# Altium footprint library LuxLogger_V2_pcb.PcbLib: 28 footprints (part 1 of 2)
Each footprint in its own frame and in the unit in brackets; x right, y up, seen from the top. Pads: shape width x height; smd on the part's side, far side on the other; paste and mask are expansions set on the pad; w line width, h text height; cw(c..) or ccw(c..) is an arc to the next point about the centre after c.
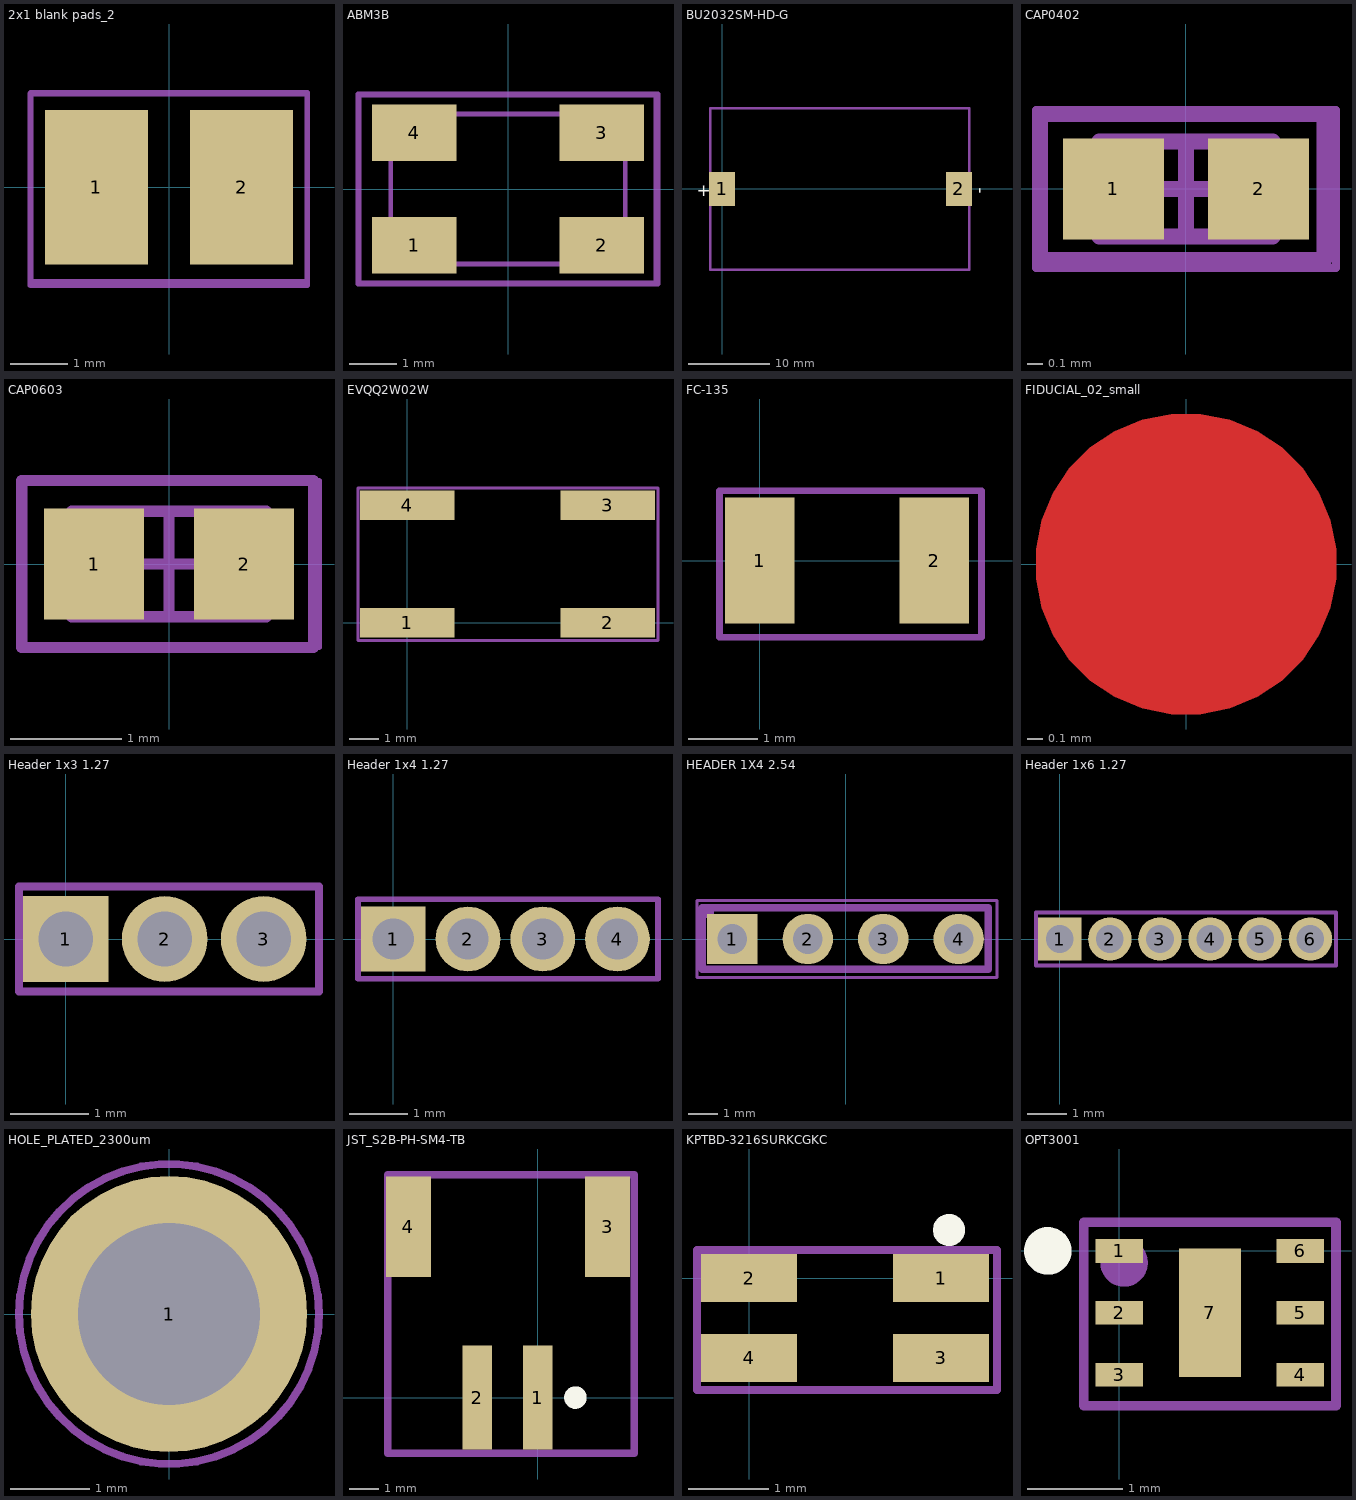
[diagram p0: the footprints below, top view; thin cyan lines are the x and y axes]

## 2x1 blank pads_2 [mm]
pads (2):
  rect 1.8x2.7 smd: 1(-1.27,0) 2(1.27,0)
Mechanical 13:
  lines w0.1: -2.413,-1.651 2.413,-1.651 2.413,1.651 -2.413,1.651 -2.413,-1.651
Mechanical 15:
  lines w0.05: -2.413,-1.651 2.413,-1.651 2.413,1.651 -2.413,1.651 -2.413,-1.651
Mechanical 29:
  lines w0.1: -2.418,-1.711 -2.418,1.638 2.414,1.638 2.414,-1.711 -2.418,-1.711
  text "'.Designator'" at -1.436,-0.661 h1

## ABM3B [mm]
pads (4):
  rect 1.8x1.2 smd: 1(-2,-1.2) 2(2,-1.2) 3(2,1.2) 4(-2,1.2)
Mechanical 13:
  circle w0.2: c-1.981,-0.94 r0.1
  lines w0.1: -2.5,-1.6 -2.5,1.6 2.5,1.6 2.5,-1.6 -2.5,-1.6
Mechanical 15:
  lines w0.1: -3.2,-2.032 -3.2,2.032 3.2,2.032 3.2,-2.032 -3.2,-2.032
Mechanical 29:
  lines w0.1: -3.175,-2 3.15,-2 3.15,2 -3.175,2 -3.175,-2
  text "'.Designator'" at -1.925,-0.525 h1
3D body: height 1.1, standoff 0, extent -2.5,-1.6 2.5,1.6

## BU2032SM-HD-G [mm]
pads (2):
  rect 3.2x4.2 smd: 1(0,0) 2(29.3,0)
Top Overlay:
  text "-" at 32.5,-0.6 h1.52
  text "+" at -3.1,-0.9 h1.52
Mechanical 29:
  lines w0.3: -1.475,-10 -1.475,9.95 30.6,9.95 30.6,-10 -1.475,-10
  text "'.Designator'" at 16.111,0.545 h1.5
3D body "MPD_BU2032SM-HD-G.STEP": height 5.3, standoff 0, extent -1.4,-10.05 30.6,9.95

## CAP0402 [mm]
pads (2):
  rect 0.64x0.64 smd: 1(-0.46,0) 2(0.46,0)
Mechanical 2:
Mechanical 13:
  lines w0.1: -0.55,-0.3 0.55,-0.3 0.55,0.3 -0.55,0.3 -0.55,-0.3
Mechanical 15:
  lines w0.05: -0.95,-0.5 0.95,-0.5 0.95,0.5 -0.95,0.5 -0.95,-0.5
  lines w0.1: -0.3,0 0.3,0 ; 0,-0.3 0,0.3
Mechanical 29:
  lines w0.1: -0.925,-0.45 0.875,-0.45 0.875,0.475 -0.925,0.475 -0.925,-0.45
  text "'.Designator'" at -0.667,-0.235 h0.5
3D body: height 0.6, standoff 0, extent -0.35,-0.3 0.35,0.3
3D body: height 0.6, standoff 0, extent 0.35,-0.3 0.55,0.3
3D body: height 0.6, standoff 0, extent -0.55,-0.3 -0.35,0.3

## CAP0603 [mm]
pads (2):
  rect 0.9x1 smd: 1(-0.675,0) 2(0.675,0)
Mechanical 2:
Mechanical 13:
  lines w0.1: -0.875,-0.475 0.875,-0.475 0.875,0.475 -0.875,0.475 -0.875,-0.475
Mechanical 15:
  lines w0.05: -1.35,-0.75 1.35,-0.75 1.35,0.75 -1.35,0.75 -1.35,-0.75
  lines w0.1: -0.475,0 0.475,0 ; 0,-0.475 0,0.475
Mechanical 29:
  lines w0.1: -1.325,-0.75 -1.325,0.75 1.3,0.75 1.3,-0.75 -1.325,-0.75
  text "'.Designator'" at 0.1,0 h0.5
3D body: height 0.85, standoff 0, extent -0.525,-0.475 0.525,0.475
3D body: height 0.85, standoff 0, extent 0.525,-0.475 0.875,0.475
3D body: height 0.85, standoff 0, extent -0.875,-0.475 -0.525,0.475

## EVQQ2W02W [mm]
pads (4):
  rect 3.2x1 smd: 1(0,0) 2(6.8,0) 3(6.8,4) 4(0,4)
Mechanical 29:
  lines w0.1: -1.675,-0.6 8.5,-0.6 8.5,4.575 -1.675,4.575 -1.675,-0.6
  text "'.Designator'" at 3.7,2.5 h1
3D body: height 1.8, standoff 0, extent 0,-1 6.5,5
3D body: height 2.5, standoff 0, extent 1.762,0.503 4.75,3.497

## FC-135 [mm]
pads (2):
  rect 1x1.8 smd: 1(0,0) 2(2.5,0)
Mechanical 29:
  lines w0.1: -0.575,-1.1 3.175,-1.1 3.175,1 -0.575,1 -0.575,-1.1
  text "'.Designator'" at 0,-0.675 h1
3D body: height 0.8, standoff 0, extent -0.35,-0.75 2.85,0.75

## FIDUCIAL_02_small [mm]
Top Layer:
  pour cut-out: 0,-1 -0.098,-1 -0.292,-0.962 -0.474,-0.886 -0.637,-0.777 -0.777,-0.637 -0.886,-0.474 -0.962,-0.292 -1,-0.098 -1,0 -1,0.098 -0.962,0.292 -0.886,0.474 -0.777,0.637 -0.637,0.777 -0.474,0.886 -0.292,0.962 -0.098,1 0,1 0.098,1 0.292,0.962 0.474,0.886 0.637,0.777 0.777,0.637 0.886,0.474 0.962,0.292 1,0.098 1,0 1,-0.098 0.962,-0.292 0.886,-0.474 0.777,-0.637 0.637,-0.777 0.474,-0.886 0.292,-0.962 0.098,-1
  region: 0,-0.5 -0.099,-0.5 -0.283,-0.424 -0.424,-0.283 -0.5,-0.099 -0.5,0 -0.5,0.099 -0.424,0.283 -0.283,0.424 -0.099,0.5 0,0.5 0.099,0.5 0.283,0.424 0.424,0.283 0.5,0.099 0.5,0 0.5,-0.099 0.424,-0.283 0.283,-0.424 0.099,-0.5
Top Solder:
  circle w0.1: c0,0 r1
  region: 0,-1 -0.098,-1 -0.292,-0.962 -0.474,-0.886 -0.637,-0.777 -0.777,-0.637 -0.886,-0.474 -0.962,-0.292 -1,-0.098 -1,0 -1,0.098 -0.962,0.292 -0.886,0.474 -0.777,0.637 -0.637,0.777 -0.474,0.886 -0.292,0.962 -0.098,1 0,1 0.098,1 0.292,0.962 0.474,0.886 0.637,0.777 0.777,0.637 0.886,0.474 0.962,0.292 1,0.098 1,0 1,-0.098 0.962,-0.292 0.886,-0.474 0.777,-0.637 0.637,-0.777 0.474,-0.886 0.292,-0.962 0.098,-1

## Header 1x3 1.27 [mm]
pads (3):
  rect 1.1x1.1 hole 0.7: 1(0,0)
  round 1.1 hole 0.7: 2(1.27,0) 3(2.54,0)
Mechanical 29:
  circle w0.254: c-0.225,0.275 r0.075
  lines w0.1: -0.6,-0.675 -0.6,0.675 3.25,0.675 3.25,-0.675 -0.6,-0.675
  text "'.Designator'" at 0.325,-0.425 h0.8

## Header 1x4 1.27 [mm]
pads (4):
  rect 1.1x1.1 hole 0.7: 1(0,0)
  round 1.1 hole 0.7: 2(1.27,0) 3(2.54,0) 4(3.81,0)
Mechanical 29:
  circle w0.254: c-0.225,0.275 r0.075
  lines w0.1: -0.6,-0.675 4.5,-0.675 4.5,0.675 -0.6,0.675 -0.6,-0.675
  text "'.Designator'" at 1.315,-0.363 h0.8

## HEADER 1X4 2.54 [mm]
pads (4):
  rect 1.7x1.7 hole 1: 1(-3.81,0)
  round 1.7 hole 1: 2(-1.27,0) 3(1.27,0) 4(3.81,0)
Mechanical 15:
  lines w0.254: -4.825,-1.025 4.8,-1.025 4.8,1.05 -4.825,1.05 -4.825,-1.025
Mechanical 29:
  circle w0.254: c-4.625,0.9 r0.075
  lines w0.1: -5,-1.3 5.1,-1.3 5.1,1.3 -5,1.3 -5,-1.3
  text "'.Designator'" at 1.34,0.9 h1.5

## Header 1x6 1.27 [mm]
pads (6):
  rect 1.1x1.1 hole 0.7: 1(0,0)
  round 1.1 hole 0.7: 2(1.27,0) 3(2.54,0) 4(3.81,0) 5(5.08,0) 6(6.35,0)
Mechanical 29:
  circle w0.254: c-0.225,0.275 r0.075
  lines w0.1: -0.6,-0.675 7,-0.675 7,0.675 -0.6,0.675 -0.6,-0.675
  text "'.Designator'" at 0.725,-0.375 h0.8

## HOLE_PLATED_2300um [mm]
pads (1):
  round 3.5 hole 2.3: 1(0,0)
Mechanical 29:
  circle w0.1: c0,0 r1.9
  text "'.Designator'" at -1.5,-0.6 h1

## JST_S2B-PH-SM4-TB [mm]
pads (4):
  rect 1x3.5 smd: 1(0,0) 2(-2.032,0)
  rect 1.5x3.4 smd: 3(2.35,5.75) 4(-4.35,5.75)
Top Overlay:
  circle w0.4: c1.27,0 r0.18
Mechanical 29:
  lines w0.254: -5.05,-1.875 3.25,-1.875 3.25,7.5 -5.05,7.5 -5.05,-1.875
  text "'.Designator'" at 0.225,4.763 h1.5
3D body "JST_S2B-PH-SM4-TB.STEP": height 5.5, standoff -0.1, extent -4.966,-1.488 2.934,7.112

## KPTBD-3216SURKCGKC [mm]
pads (4):
  rect 1.2x0.6 smd: 1(2.4,0) 2(0,0) 3(2.4,-1) 4(0,-1)
Top Overlay:
  circle w0.2: c2.5,0.6 r0.1
Mechanical 29:
  circle w0.25: c2.75,0 r0.125
  lines w0.1: -0.65,-1.4 3.1,-1.4 3.1,0.35 -0.65,0.35 -0.65,-1.4
  text "'.Designator'" at -0.3,-1 h0.8
3D body: height 0.25, standoff 0, extent -0.4,-1.3 2.8,0.3
3D body: height 1, standoff 0, extent 0.406,-1.298 2,0.299
3D body: height 1.8, standoff 0.2, extent 0.4,-1.297 2,0.297

## OPT3001 [mm]
pads (7):
  rect 0.5x0.25 smd: 1(0,0) 2(0,-0.65) 3(0,-1.3) 4(1.9,-1.3) 5(1.9,-0.65) 6(1.9,0)
  rect 0.65x1.35 smd: 7(0.95,-0.65)
Top Overlay:
  circle w0.25: c-0.75,0 r0.125
Mechanical 29:
  circle w0.25: c0.05,-0.125 r0.125
  lines w0.1: -0.375,-1.625 -0.375,0.3 2.275,0.3 2.275,-1.625 -0.375,-1.625
  text "'.Designator'" at 1.382,-0.424 h0.5
3D body "TI_OPT3001.STP": height 0.62, standoff -0.01, extent -0.05,-1.65 1.95,0.35